# Altium integrated library CapTIvate_Connector.IntLib: 4 symbols
Pins are listed as number, name and electrical type; pins without a type are passive.

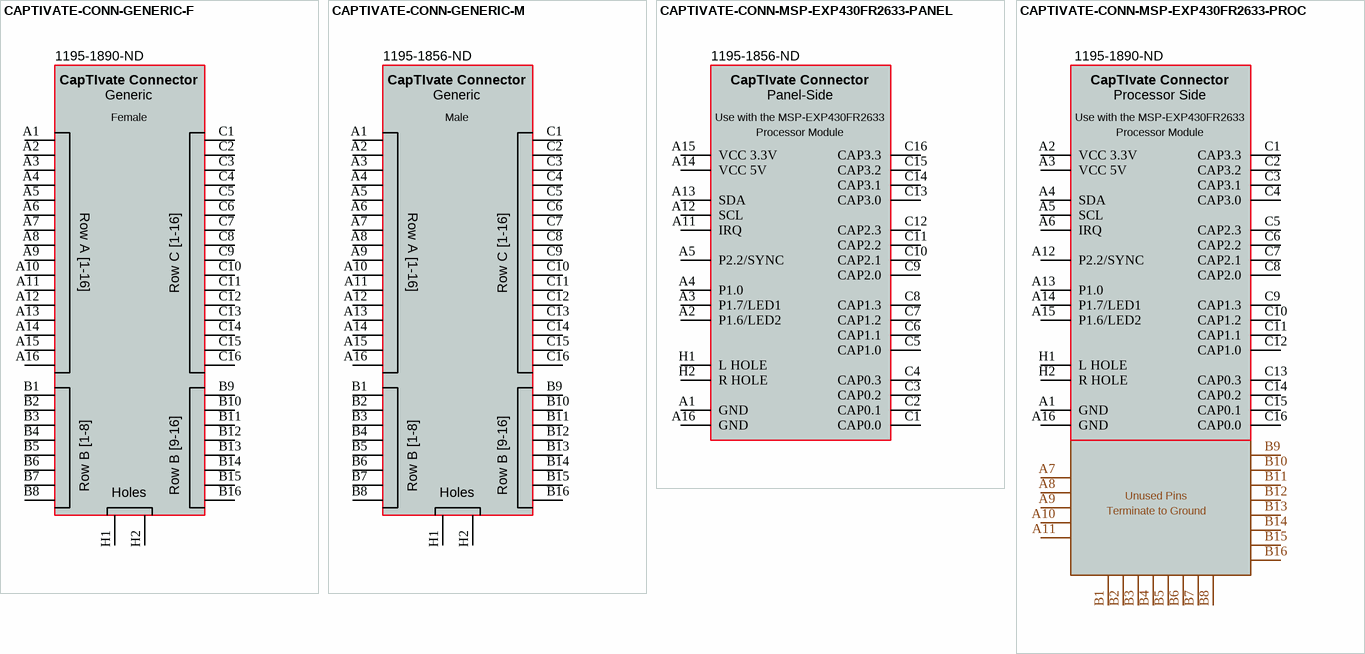
[diagram p0: symbols CAPTIVATE-CONN-GENERIC-F to CAPTIVATE-CONN-MSP-EXP430FR2633-PROC]

## CAPTIVATE-CONN-GENERIC-F
designator J?  Supplier Part Number 1: 1195-1890-ND
CapTIvate Generic Connector, 3x16, 100mil, TH, RA, F; Manufacturer: Used in BOM report; SymbolVersion: use current date i.e. 2008-05-20; SymbolCreator: Use a-id; CompType: Used in some BOM reports.  Useful for finding later.; U/M: EA, IN, or GM; MountType: SMT, TH, or N/A; RoHS: Y; PartNumber: CAPTIVATE-CONN-GENERIC-F; PackageReference: eg:  0603, used in PnP report; ComponentLink1Description: Datasheet Link; Alternate PartNumber: -; Alternate Manufacturer: -; Supplier 1: Digi-Key
footprint CAPTIVATE-CONN-48 (Connector, 3x16, 100mil, TH, RA)
footprint CAPTIVATE-CONN-48-NONUM (Connector, 3x16, 100mil, TH, RA)
pins: A1, A2, A3, A4, A5, A6, A7, A8, A9, A10, A11, A12, A13, A14, A15, A16, B1, B2, B3, B4, B5, B6, B7, B8, B9, B10, B11, B12, B13, B14, B15, B16, C1, C2, C3, C4, C5, C6, C7, C8, C9, C10, C11, C12, C13, C14, C15, C16, H1, H2
text: CapTIvate Connector; Generic; Female; Row A [1-16]; Row C [1-16]; Row B [1-8]; Row B [9-16]; Holes

## CAPTIVATE-CONN-GENERIC-M
designator U?  Supplier Part Number 1: 1195-1856-ND
CapTIvate Generic Connector, 3x16, 100mil, TH, RA, M; Manufacturer: Used in BOM report; SymbolVersion: use current date i.e. 2008-05-20; SymbolCreator: Use a-id; CompType: Used in some BOM reports.  Useful for finding later.; U/M: EA, IN, or GM; MountType: SMT, TH, or N/A; RoHS: Y; PartNumber: CAPTIVATE-CONN-GENERIC-M; PackageReference: eg:  0603, used in PnP report; ComponentLink1Description: Datasheet Link; Alternate PartNumber: -; Alternate Manufacturer: -; Supplier 1: Digi-Key
footprint CAPTIVATE-CONN-48 (Connector, 3x16, 100mil, TH, RA)
footprint CAPTIVATE-CONN-48-NONUM (Connector, 3x16, 100mil, TH, RA)
pins: A1, A2, A3, A4, A5, A6, A7, A8, A9, A10, A11, A12, A13, A14, A15, A16, B1, B2, B3, B4, B5, B6, B7, B8, B9, B10, B11, B12, B13, B14, B15, B16, C1, C2, C3, C4, C5, C6, C7, C8, C9, C10, C11, C12, C13, C14, C15, C16, H1, H2
text: CapTIvate Connector; Generic; Male; Row A [1-16]; Row C [1-16]; Row B [1-8]; Row B [9-16]; Holes

## CAPTIVATE-CONN-MSP-EXP430FR2633-PANEL
designator J?, comment CAPTIVATE-CONN-FR2633-PANEL  Supplier Part Number 1: 1195-1856-ND
CapTIvate Panel-Side Connector, 3x16, 100mil, TH, RA, M, MSP-EXP430FR2633; Manufacturer: Used in BOM report; SymbolCreator: a0273983; U/M: EA, IN, or GM; SymbolVersion: 2015-1-5; MountType: SMT, TH, or N/A; RoHS: Y; PartNumber: CAPTIVATE-CONN-FR2633-PANEL; PackageReference: eg:  0603, used in PnP report; ComponentLink1Description: Datasheet Link; CompType: Connector; Alternate PartNumber: -; Alternate Manufacturer: -; Supplier 1: Digi-Key
footprint CAPTIVATE-CONN-48 (Connector, 3x16, 100mil, TH, RA)
footprint CAPTIVATE-CONN-48-NONUM (Connector, 3x16, 100mil, TH, RA)
pins: A1 GND (power), A2 P1.6/LED2 (oc), A3 P1.7/LED1 (oc), A4 P1.0 (oc), A5 P2.2/SYNC (oc), A11 IRQ (oc), A12 SCL (oc), A13 SDA (oc), A14 VCC 5V (power), A15 VCC 3.3V (power), A16 GND (power), C1 CAP0.0, C2 CAP0.1, C3 CAP0.2, C4 CAP0.3, C5 CAP1.0, C6 CAP1.1, C7 CAP1.2, C8 CAP1.3, C9 CAP2.0, C10 CAP2.1, C11 CAP2.2, C12 CAP2.3, C13 CAP3.0, C14 CAP3.1, C15 CAP3.2, C16 CAP3.3, H1 L HOLE, H2 R HOLE
text: CapTIvate Connector; Panel-Side; Use with the MSP-EXP430FR2633; Processor Module

## CAPTIVATE-CONN-MSP-EXP430FR2633-PROC
designator J?, comment CAPTIVATE-CONN-FR2633-PROC  Supplier Part Number 1: 1195-1890-ND
CapTIvate Processor-Side Connector, 3x16, 100mil, TH, RA, F, MSP-EXP430FR2633; Manufacturer: Used in BOM report; SymbolVersion: use current date i.e. 2008-05-20; SymbolCreator: Use a-id; CompType: Used in some BOM reports.  Useful for finding later.; U/M: EA, IN, or GM; MountType: SMT, TH, or N/A; RoHS: Y; PartNumber: CAPTIVATE-CONN-FR2633-PROC; PackageReference: eg:  0603, used in PnP report; ComponentLink1Description: Datasheet Link; Alternate PartNumber: -; Alternate Manufacturer: -; Supplier 1: Digi-Key
footprint CAPTIVATE-CONN-48 (Connector, 3x16, 100mil, TH, RA)
footprint CAPTIVATE-CONN-48-NONUM (Connector, 3x16, 100mil, TH, RA)
pins: A1 GND (power), A2 VCC 3.3V (power), A3 VCC 5V (power), A4 SDA (oc), A5 SCL (oc), A6 IRQ (oc), A7, A8, A9, A10, A11, A12 P2.2/SYNC (oc), A13 P1.0 (oc), A14 P1.7/LED1 (oc), A15 P1.6/LED2 (oc), A16 GND (power), B1, B2, B3, B4, B5, B6, B7, B8, B9, B10, B11, B12, B13, B14, B15, B16, C1 CAP3.3, C2 CAP3.2, C3 CAP3.1, C4 CAP3.0, C5 CAP2.3, C6 CAP2.2, C7 CAP2.1, C8 CAP2.0, C9 CAP1.3, C10 CAP1.2, C11 CAP1.1, C12 CAP1.0, C13 CAP0.3, C14 CAP0.2, C15 CAP0.1, C16 CAP0.0, H1 L HOLE, H2 R HOLE
text: CapTIvate Connector; Processor Side; Use with the MSP-EXP430FR2633; Processor Module; Unused Pins; Terminate to Ground